# Altium schematic symbol library SMD1812P020TF_30.Schlib: 1 symbol
Pins are listed as number, name and electrical type; pins without a type are passive.

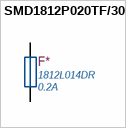
[diagram p0: symbol SMD1812P020TF/30]

## SMD1812P020TF/30
designator F*, comment 1812L014DR  Hold Current: 0.2A
30V 400mA 1812 PTC Resettable Fuses RoHS; Trip Current: 0.4A; LCSC Part #: C13575; JLCPCB Part Type: Extended; ComponentLink1Description: LCSC - RUILON SMD1812P020TF/30; ComponentLink1URL: https://lcsc.com/product-detail/PTC-Resettable-Fuses_RUILON-Shenzhen-Ruilongyuan-Elec-SMD1812P020TF-30_C13575.html
footprint CH1812F (Chip Fuse, 1812)
pins: 1, 2